# Altium footprint library 62000611121.PcbLib: 1 footprints
Each footprint in its own frame and in the unit in brackets; x right, y up, seen from the top. Pads: shape width x height; smd on the part's side, far side on the other; paste and mask are expansions set on the pad; w line width, h text height; cw(c..) or ccw(c..) is an arc to the next point about the centre after c.
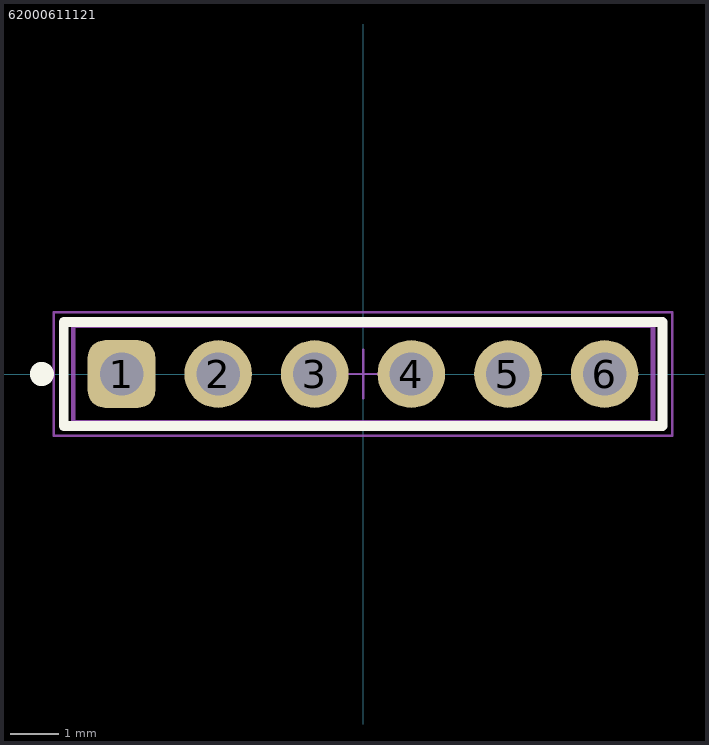
[diagram p0: the footprint, top view; thin cyan lines are the x and y axes]

## 62000611121 [mm] "Pin Header, pitch 2.00 mm, THT, Vertical, single row, 6p"
height 6.35
pads (6):
  rrect50% 1.4x1.4 hole 0.9: 1(-5,0)
  round 1.4 hole 0.9: 2(-3,0) 3(-1,0) 4(1,0) 5(3,0) 6(5,0)
Top Overlay:
  circle w0.25: c-6.65,0 r0.125
  lines w0.2: -6.2,-1.075 6.2,-1.075 6.2,1.075 -6.2,1.075 -6.2,-1.075
Top Designator:
  text ".Designator" at -5.998,-0.4 h1.2
Top Component Outline:
  lines w0.1: -6,-1 6,-1 6,1 -6,1 -6,-1
Top Courtyard:
  lines w0.05: -6.4,-1.275 6.4,-1.275 6.4,1.275 -6.4,1.275 -6.4,-1.275
Top Component Center:
  lines w0.05: -0.5,0 0.5,0 ; 0,-0.5 0,0.5
3D body "62000611121.stp": height 6.05, standoff -2.65, extent -6,-1 6,1